# Altium schematic symbol library USBLC6.Schlib: 1 symbol
Pins are listed as number, name and electrical type; pins without a type are passive.

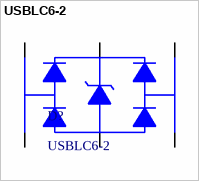
[diagram p0: symbol USBLC6-2]

## USBLC6-2
designator D?
pins: 1, 2, 3, 4, 5, 6